# Altium footprint library SON65P300X315X90-9N.PcbLib: 1 footprints
Each footprint in its own frame and in the unit in brackets; x right, y up, seen from the top. Pads: shape width x height; smd on the part's side, far side on the other; paste and mask are expansions set on the pad; w line width, h text height; cw(c..) or ccw(c..) is an arc to the next point about the centre after c.
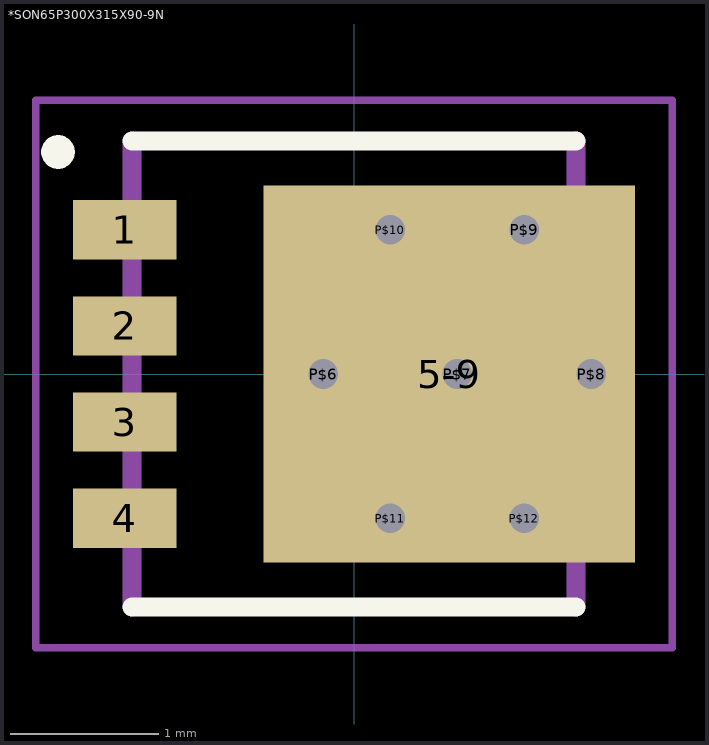
[diagram p0: the footprint, top view; thin cyan lines are the x and y axes]

## *SON65P300X315X90-9N [mm]
pads (12):
  rect 0.7x0.4 smd: 1(-1.55,0.975) 2(-1.55,0.325) 3(-1.55,-0.325) 4(-1.55,-0.975)
  rect 2.51x2.55 smd: 5-9(0.645,0)
  round 0.25 hole 0.2: P$6(-0.207,0) P$7(0.698,0) P$8(1.603,0) P$9(1.15,0.975) P$10(0.245,0.975) P$11(0.245,-0.975) P$12(1.15,-0.975)
Top Overlay:
  circle w0.127: c-2,1.5 r0.05
  lines w0.127: -1.5,-1.575 1.5,-1.575 ; -1.5,1.575 1.5,1.575
Top Paste:
  region: -1.919,0.475 -1.25,0.475 -1.25,0.182 -1.919,0.182
  region: -1.908,-0.175 -1.25,-0.175 -1.25,-0.49 -1.908,-0.49
  region: -1.922,1.125 -1.25,1.125 -1.25,0.857 -1.922,0.857
  region: -1.912,-0.825 -1.25,-0.825 -1.25,-1.163 -1.912,-1.163
  region: 1.297,0.475 1.85,0.475 1.85,0.182 1.297,0.182
  region: 1.287,-0.175 1.85,-0.175 1.85,-0.489 1.287,-0.489
  region: 1.295,1.125 1.85,1.125 1.85,0.855 1.295,0.855
  region: 1.293,-0.825 1.85,-0.825 1.85,-1.164 1.293,-1.164
  region: -0.579,1.225 0.145,1.225 0.145,0.104 -0.579,0.104
  region: -0.58,-0.101 0.145,-0.101 0.145,-1.268 -0.58,-1.268
  region: 0.358,1.225 1.05,1.225 1.05,0.104 0.358,0.104
  region: 0.356,-0.101 1.05,-0.101 1.05,-1.267 0.356,-1.267
Top Solder:
  region: -1.912,0.475 -1.25,0.475 -1.25,0.181 -1.912,0.181
  region: -1.914,-0.175 -1.25,-0.175 -1.25,-0.492 -1.914,-0.492
  region: -1.914,1.125 -1.25,1.125 -1.25,0.853 -1.914,0.853
  region: -1.911,-0.825 -1.25,-0.825 -1.25,-1.162 -1.911,-1.162
  region: -0.58,1.225 1.215,1.225 1.215,-1.268 -0.58,-1.268
  region: 1.262,1.125 1.85,1.125 1.85,0.857 1.262,0.857
  region: 1.255,0.475 1.85,0.475 1.85,0.181 1.255,0.181
  region: 1.254,-0.175 1.85,-0.175 1.85,-0.49 1.254,-0.49
  region: 1.254,-0.825 1.85,-0.825 1.85,-1.161 1.254,-1.161
Mechanical 4:
  lines w0.127: -1.5,-1.575 -1.5,1.575 -1.5,-1.575 ; 1.5,-1.575 1.5,1.575 1.5,-1.575
Mechanical 16:
  lines w0.05: -2.15,-1.85 2.15,-1.85 2.15,1.85 -2.15,1.85 -2.15,-1.85